# Altium footprint library MOLEX_39281043.PcbLib: 1 footprints
Each footprint in its own frame and in the unit in brackets; x right, y up, seen from the top. Pads: shape width x height; smd on the part's side, far side on the other; paste and mask are expansions set on the pad; w line width, h text height; cw(c..) or ccw(c..) is an arc to the next point about the centre after c.
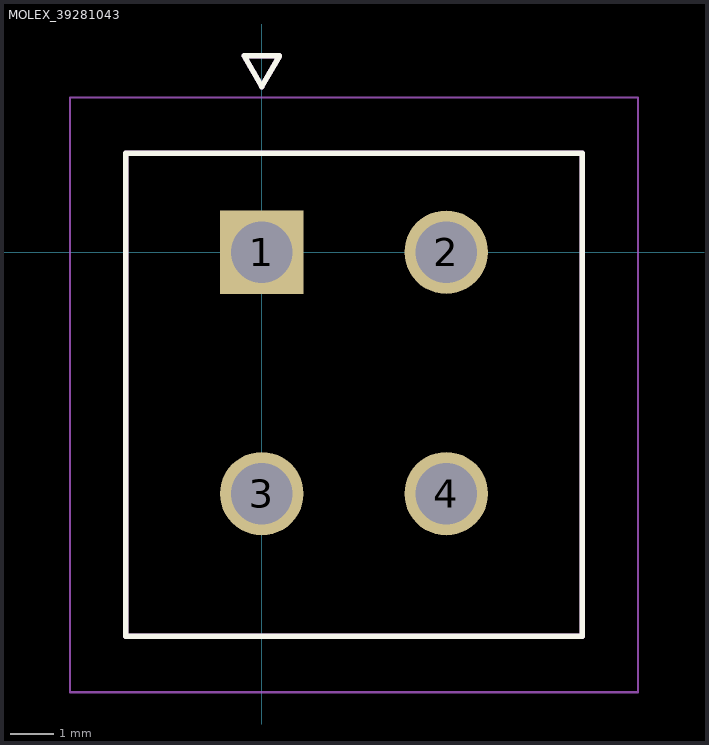
[diagram p0: the footprint, top view; thin cyan lines are the x and y axes]

## MOLEX_39281043 [mm]
height 12.8
pads (4):
  rect 1.9x1.9 / inner round 1.9 / far side rect 1.9x1.9 hole 1.4 mask+0.076: 1(0,0)
  round 1.9 hole 1.4 mask+0.076: 2(4.2,0) 3(0,-5.5) 4(4.2,-5.5)
Top Overlay:
  lines w0.127: -3.1,-8.75 7.3,-8.75 7.3,2.25 -3.1,2.25 -3.1,-8.75 ; -0.4,4.47 0,3.77 0.4,4.47 -0.4,4.47
Mechanical 13:
  lines w0.127: -3.1,-8.75 7.3,-8.75 7.3,2.25 -3.1,2.25 -3.1,-8.75 ; -0.4,4.47 0,3.77 0.4,4.47 -0.4,4.47
Mechanical 15:
  lines w0.05: -4.37,-10.02 8.57,-10.02 8.57,3.52 -4.37,3.52 -4.37,-10.02